# Altium schematic symbol library Semiconductor.SchLib: 16 symbols
Pins are listed as number, name and electrical type; pins without a type are passive.

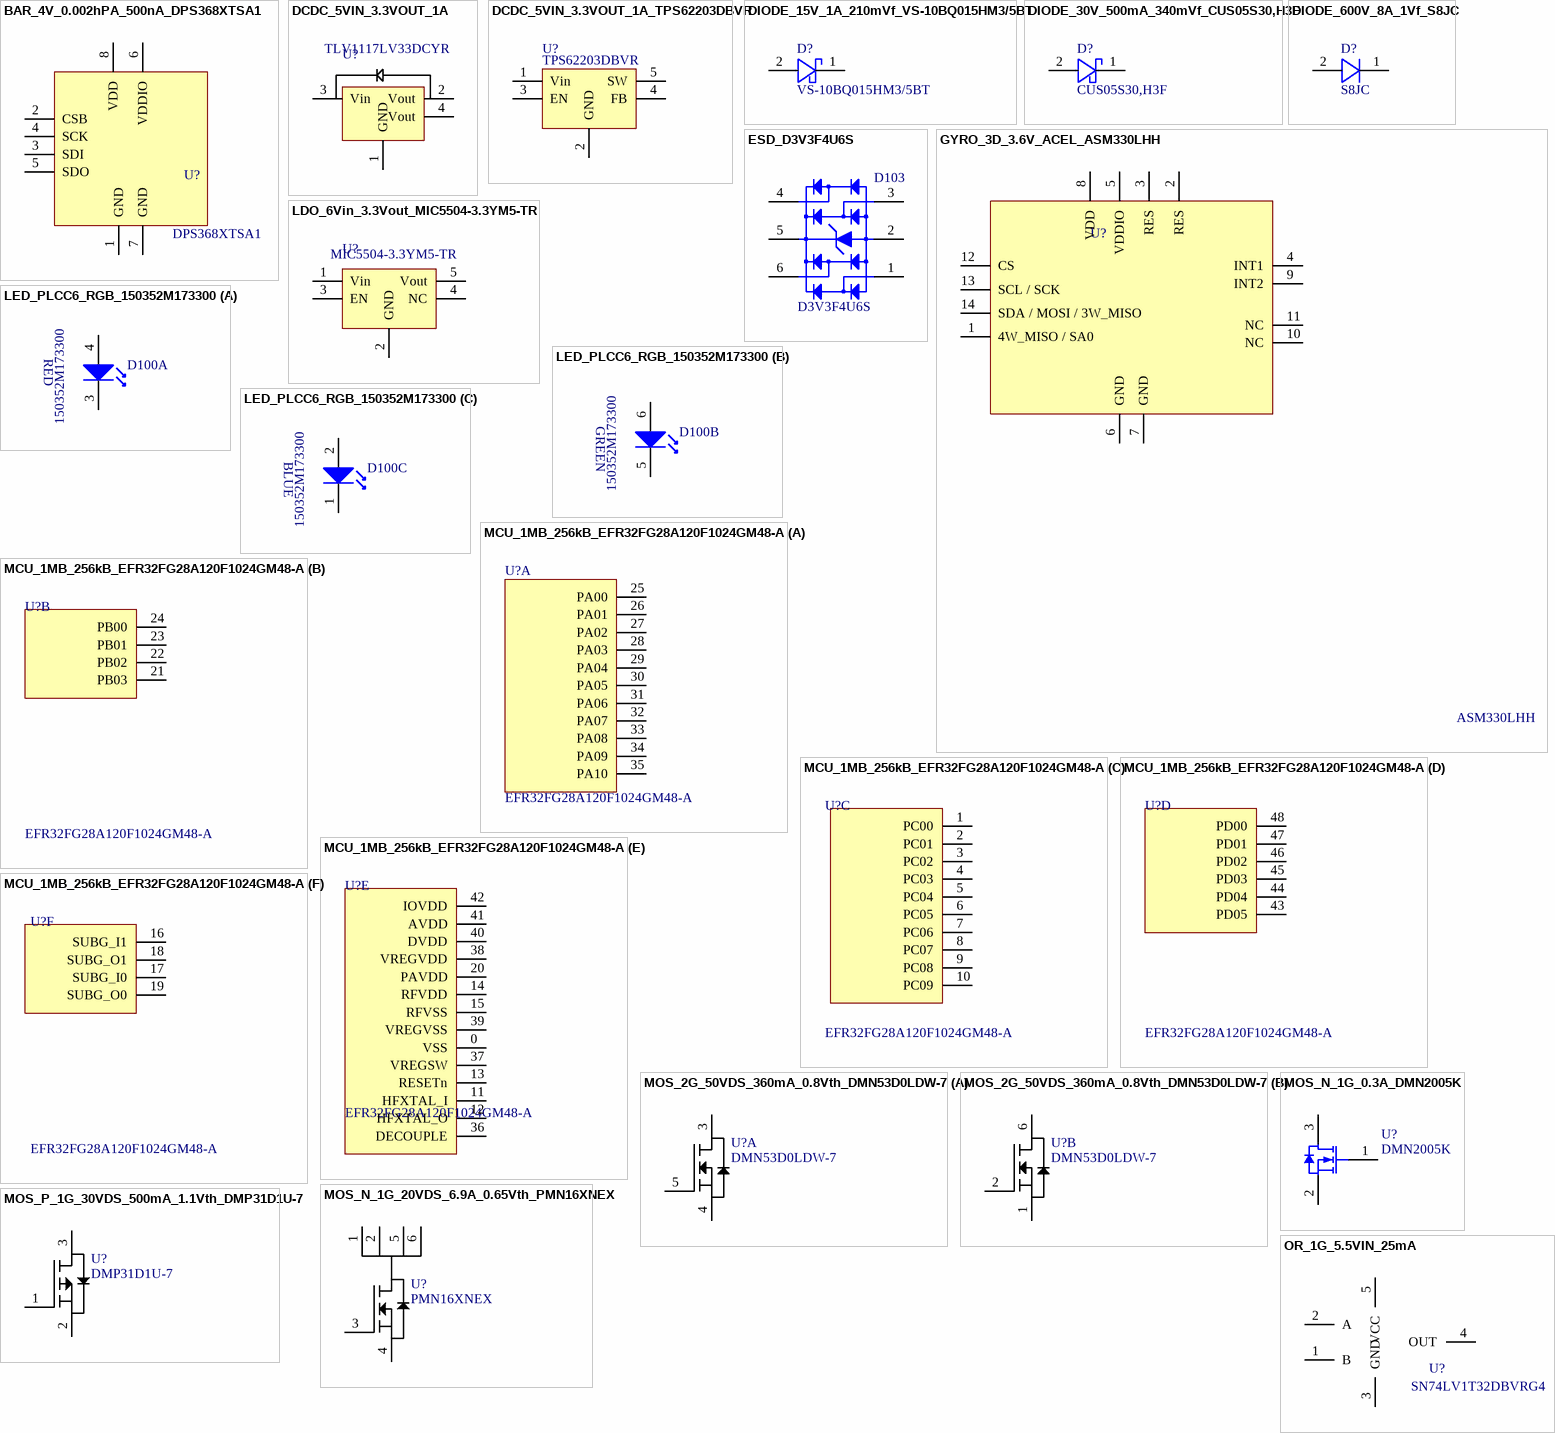
[diagram p0: symbols BAR_4V_0.002hPA_500nA_DPS368XTSA1 to OR_1G_5.5VIN_25mA]

## BAR_4V_0.002hPA_500nA_DPS368XTSA1
designator U?  MANUFACTURER REFERENCE: DPS368XTSA1  (hidden comment: BAR_4V_0.002hPA_500nA_DPS368XTSA1)
BAROMETRIC SENSOR 4V 0.002hPA 500nA DPS368XTSA1; MANUFACTURER: INFINEON; INPUT VOLTAGE MIN: 1.7V; CURRENT MAX: 350uA; NUMBER OF GATES: 1; INPUT VOLTAGE MAX: 4V; PACKAGING: 8-VFLGA; MOUNTING: SMD
footprint DPS368XTSA1
pins: 1 GND, 2 CSB, 3 SDI, 4 SCK, 5 SDO, 6 VDDIO, 7 GND, 8 VDD

## DCDC_5VIN_3.3VOUT_1A
designator U?  MANUFACTURER REFERENCE: TLV1117LV33DCYR  (hidden comment: DCDC_5VIN_3.3VOUT_1A)
DCDC 2-5Vin 3.3Vout 1A; MANUFACTURER: TI; INPUT VOLTAGE MIN: 2V; INPUT VOLTAGE MAX: 5V; OUTPUT VOLTAGE: 3.3V; CURRENT MAX: 1A; PACKAGING: SOT-223; MOUNTING: SMD
footprint SOT-223
pins: 1 GND, 2 Vout, 3 Vin, 4 Vout

## DCDC_5VIN_3.3VOUT_1A_TPS62203DBVR
designator U?, comment MANUFACTURER REFERENCE: TPS62203DBVR  (hidden comment: DCDC_6VIN_3.3VOUT_600mA_TPS62203DBVR)
DCDC 2-5Vin 3.3Vout 1A 300mA TPS62203DBVR; MANUFACTURER: TI; INPUT VOLTAGE MIN: 2.5V; INPUT VOLTAGE MAX: 6V; OUTPUT VOLTAGE: 3.3V; CURRENT MAX: 300mA; PACKAGING: SOT-23-5; MOUNTING: SMD
footprint SC-74A-5 SOT-23-5
pins: 1 Vin, 2 GND, 3 EN, 4 FB, 5 SW

## DIODE_15V_1A_210mVf_VS-10BQ015HM3/5BT
designator D?  MANUFACTURER REFERENCE: VS-10BQ015HM3/5BT  (hidden comment: DIODE_15V_1A_210mVf_VS-10BQ015HM3/5BT)
DIODE 15V 1A 210mVf VS-10BQ015HM3/5BT; MANUFACTURER: VISHAY; FORWARD VOLTAGE: 210mV; TYPE: SCHOTTKY; REVERSE VOLTAGE MAX: 15V; CURRENT MAX: 1A; PACKAGING: DO-214AA; MOUNTING: SMD
footprint DO-214AA
pins: 1, 2

## DIODE_30V_500mA_340mVf_CUS05S30,H3F
designator D?  MANUFACTURER REFERENCE: CUS05S30,H3F  (hidden comment: DIODE_30V_500mA_340mVf_CUS05S30,H3F)
DIODE 30V 500mA 340mVf CUS05S30,H3F; MANUFACTURER: TOSHIBA; FORWARD VOLTAGE: 340mV; TYPE: SCHOTTKY; REVERSE VOLTAGE MAX: 30V; CURRENT MAX: 500mA; PACKAGING: SOD-323; MOUNTING: SMD
footprint SOD-323
pins: 1, 2

## DIODE_600V_8A_1Vf_S8JC
designator D?  MANUFACTURER REFERENCE: S8JC  (hidden comment: DIODE_600V_8A_1Vf_S8JC)
DIODE 600V 8A 1Vf S8JC; MANUFACTURER: TAIWAN; FORWARD VOLTAGE: 1V; TYPE: NORMAL; REVERSE VOLTAGE MAX: 600V; CURRENT MAX: 8A; PACKAGING: DO-214AB; MOUNTING: SMD
footprint DO-214AB
pins: 1, 2

## ESD_D3V3F4U6S
designator D103  MANUFACTURER REFERENCE: D3V3F4U6S  (hidden comment: ESD_D3V3F4U6S)
4 CH ESD PROTECTION SOT363 LOW CAP D3V3F4U6S; MANUFACTURER: DIODES INC; DRAW BY: ToV; LATEST REVISION NOTE: CREATION; VF DIODE: 1.1V; NB OF CHANNEL: 4; UL94: V-0; DRAW DATE: 02/05/2022; LATEST REVISION DATE: 02/05/2022; MOUNTING: SMD; STATUS: ACTIVE; PACKAGING: SOT363; OPERATING TEMPERATURE: -55 +150°C; TYPE: ESD; PEAK CURRENT: --; AVERAGE CURRENT: *; MAX POWER DISSIPATION: --; ROHS: ROHS; WEIGHT (g): 0.006
footprint SOT-363 SC-70-6 (SOT-363 / SC-70-6)
pins: 1, 2, 3, 4, 5, 6

## GYRO_3D_3.6V_ACEL_ASM330LHH
designator U?  MANUFACTURER REFERENCE: ASM330LHH  (hidden comment: GYRO_3D_3.6V_ACEL_ASM330LHH)
Gyroscope and accelerometer 3D 3.6V ASM330LHH; MANUFACTURER: ST; INPUT VOLTAGE MIN: 2V; INPUT VOLTAGE MAX: 3.6V; PACKAGING: 14-LGA; MOUNTING: SMD
footprint LGA14
pins: 1 4W_MISO / SA0, 2 RES, 3 RES, 4 INT1, 5 VDDIO, 6 GND, 7 GND, 8 VDD, 9 INT2, 10 NC, 11 NC, 12 CS, 13 SCL / SCK, 14 SDA / MOSI / 3W_MISO

## LDO_6Vin_3.3Vout_MIC5504-3.3YM5-TR
designator U?  MANUFACTURER REFERENCE: MIC5504-3.3YM5-TR  (hidden comment: LDO_6Vin_3.3Vout_MIC5504-3.3YM5-TR)
LDO 6Vin 3.3Vout MIC5504-3.3YM5-TR; MANUFACTURER: MICROCHIP; INPUT VOLTAGE MIN: 2.5V; INPUT VOLTAGE MAX: 6V; OUTPUT VOLTAGE: 3.3V; CURRENT MAX: 300mA; PACKAGING: SOT-23-5; MOUNTING: SMD
footprint SC-74A-5 SOT-23-5
pins: 1 Vin, 2 GND, 3 EN, 4 NC, 5 Vout

## LED_PLCC6_RGB_150352M173300
designator D100  MANUFACTURER REFERENCE: 150352M173300  (hidden comment: LED_PLCC6_RGB_150352M173300)
CBI LED RGB PLCC6 150352M173300; MANUFACTURER: WURTH; DRAW BY: ToV; LATEST REVISION NOTE: CREATION; VF LED: 3.2V, 3.2V, 2V; IF LED: 20mA; LUMINOUS INTENSITY: 400mcd,1700mcd,750mcd; VIEWING ANGLE: 120°; DRAW DATE: 01/04/2021; LATEST REVISION DATE: 01/04/2021; MOUNTING: SMD; STATUS: ACTIVE; PACKAGING: PLCC6; OPERATING TEMPERATURE: -40 +85°C; TECHNOLOGY: LED; DISPLAY: *; DIMENSION: *; CHANNEL: *; ISOLATION: *; COLOR: RGB; ROHS: ROHS; UL94: -; WEIGHT: -
footprint 6-PLCC
part A pins: 3 KR, 4 AR
part B pins: 5 KG, 6 AG
part C pins: 1 KB, 2 AB
part A text: RED
part B text: GREEN
part C text: BLUE

## MCU_1MB_256kB_EFR32FG28A120F1024GM48-A
designator U?  MANUFACTURER REFERENCE: EFR32FG28A120F1024GM48-A  (hidden comment: MCU_1MB_256kB_EFR32FG28A120F1024GM48-A)
MCU 1MB 256kB EFR32FG28A120F1024GM48-A; MANUFACTURER: SILICON LABS; PACKAGING: QFN48 0606; FLASH SIZE: 1 MB; RAM SIZE: 256 KB; PIN COUNT: 48; MOUNTING: SMD
footprint QFN48
part A pins: 25 PA00, 26 PA01, 27 PA02, 28 PA03, 29 PA04, 30 PA05, 31 PA06, 32 PA07, 33 PA08, 34 PA09, 35 PA10
part B pins: 21 PB03, 22 PB02, 23 PB01, 24 PB00
part C pins: 1 PC00, 2 PC01, 3 PC02, 4 PC03, 5 PC04, 6 PC05, 7 PC06, 8 PC07, 9 PC08, 10 PC09
part D pins: 43 PD05, 44 PD04, 45 PD03, 46 PD02, 47 PD01, 48 PD00
part E pins: 0 VSS, 11 HFXTAL_I, 12 HFXTAL_O, 13 RESETn, 14 RFVDD, 15 RFVSS, 20 PAVDD, 36 DECOUPLE, 37 VREGSW, 38 VREGVDD, 39 VREGVSS, 40 DVDD, 41 AVDD, 42 IOVDD
part F pins: 16 SUBG_I1, 17 SUBG_I0, 18 SUBG_O1, 19 SUBG_O0

## MOS_2G_50VDS_360mA_0.8Vth_DMN53D0LDW-7
designator U?  MANUFACTURER REFERENCE: DMN53D0LDW-7  (hidden comment: MOS_2G_50VDS_360mA_0.8Vth_DMN53D0LDW-7)
MOS 2GATES 50VDS 360mA 0.8Vth; MANUFACTURER: DIODES; VOLTAGE DS MAX: 50; NUMBER OF GATES: 2; VOLTAGE THRESHOLD: 0.8V; CURRENT MAX: 360mA; PACKAGING: SOT-363-6; MOUNTING: SMD
footprint SOT-363 SC-70-6 (SOT-363 / SC-70-6)
part A pins: 3, 4, 5
part B pins: 1, 2, 6

## MOS_N_1G_0.3A_DMN2005K
designator U?  MANUFACTURER REFERENCE: DMN2005K  (hidden comment: MOS_N_1G_0.3A_DMN2005K)
TRANSISTOR MOSFET N 0.3A 20V; MANUFACTURER: DIODES INC; DRAW BY: GFO; LATEST REVISION NOTE: CREATION; VCEsat/RDSon: 0.4@2.7V; VBEon/VGSth: 0.9V; VEB/VGSmax: 10V; PDmax: 0.35W; TJmax: 165°C; RTHJA: 357°C/W; UL94: V-0; DRAW DATE: 06/08/219; LATEST REVISION DATE: 06/08/2019; VALIDATED BY: -; MOUNTING: SMD; STATUS: ACTIVE; PACKAGING: SOT-23-3; OPERATING TEMPERATURE: -65 +150°C; TECHNOLOGY: MOSFET; TYPE: N; VCE/VDSmax: 20V; HFE/GFS: -; IC/IDmax: 0.3A; ROHS: ROHS
footprint SOT-23
pins: 1 G, 2 S, 3 D

## MOS_N_1G_20VDS_6.9A_0.65Vth_PMN16XNEX
designator U?  MANUFACTURER REFERENCE: PMN16XNEX  (hidden comment: MOS_N_1G_20VDS_6.9A_0.65Vth_PMN16XNEX)
MOS N 1G 20VDS 6.9A 0.65Vth PMN16XNEX; MANUFACTURER: NEXPERIA; VOLTAGE DS MAX: 20V; NUMBER OF GATES: 1; VOLTAGE THRESHOLD: 0.65V; CURRENT MAX: 6.9A; PACKAGING: SOT-457; MOUNTING: SMD
footprint TSSOP-6
pins: 1, 2, 3, 4, 5, 6

## MOS_P_1G_30VDS_500mA_1.1Vth_DMP31D1U-7
designator U?  MANUFACTURER REFERENCE: DMP31D1U-7  (hidden comment: MOS_P_1G_30VDS_500mA_1.1Vth_DMP31D1U-7)
MOS-P 1GATE 30VDS 500mA 1.1VTH DMP31D1U-7; MANUFACTURER: DIODES; VOLTAGE DS MAX: -30V; NUMBER OF GATES: 1; VOLTAGE THRESHOLD: -1.1V; CURRENT MAX: 500mA; PACKAGING: SOT-23; MOUNTING: SMD
footprint SOT-23
pins: 1, 2, 3

## OR_1G_5.5VIN_25mA
designator U?  MANUFACTURER REFERENCE: SN74LV1T32DBVRG4  (hidden comment: OR_1G_5.5VIN_25mA)
OR 1GATE 1.6-5.5VIN 25mA; MANUFACTURER: TI; INPUT VOLTAGE MIN: 1.6V; INPUT VOLTAGE MAX: 5.5V; NUMBER OF GATES: 1; CURRENT MAX: 25mA; PACKAGING: SC-74A-5; MOUNTING: SMD
footprint SC-74A-5 SOT-23-5
pins: 1 B, 2 A, 3 GND, 4 OUT, 5 VCC